# Altium footprint library TOBY-L2.PcbLib: 1 footprints
Each footprint in its own frame and in the unit in brackets; x right, y up, seen from the top. Pads: shape width x height; smd on the part's side, far side on the other; paste and mask are expansions set on the pad; w line width, h text height; cw(c..) or ccw(c..) is an arc to the next point about the centre after c.
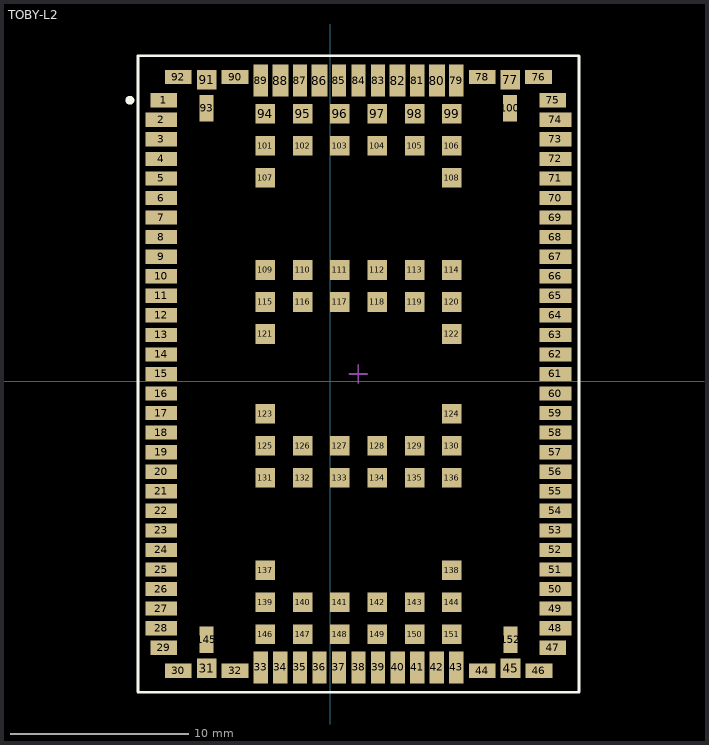
[diagram p0: the footprint, top view; thin cyan lines are the x and y axes]

## TOBY-L2 [mm]
pads (152):
  rect 1.5x0.8 smd paste+0 mask+0.05: 1(-9.363,15.8) 29(-9.363,-15) 47(12.513,-15) 75(12.512,15.8)
  rect 1.8x0.8 smd paste-0.025 mask+0.05: 2(-9.512,14.7) 3(-9.512,13.6) 4(-9.512,12.5) 5(-9.512,11.4) 6(-9.512,10.3) 7(-9.512,9.2) 8(-9.512,8.1) 9(-9.512,7) 10(-9.512,5.9) 11(-9.512,4.8) 12(-9.512,3.7) 13(-9.512,2.6) 14(-9.512,1.5) 15(-9.512,0.4) 16(-9.512,-0.7) 17(-9.512,-1.8) 18(-9.512,-2.9) 19(-9.512,-4) 20(-9.512,-5.1) 21(-9.512,-6.2) 22(-9.512,-7.3) 23(-9.512,-8.4) 24(-9.512,-9.5) 25(-9.512,-10.6) 26(-9.512,-11.7) 27(-9.512,-12.8) 28(-9.512,-13.9) 48(12.663,-13.9) 49(12.663,-12.8) 50(12.663,-11.7) 51(12.663,-10.6) 52(12.663,-9.5) 53(12.663,-8.4) 54(12.663,-7.3) 55(12.663,-6.2) 56(12.663,-5.1) 57(12.663,-4) 58(12.663,-2.9) 59(12.663,-1.8) 60(12.663,-0.7) 61(12.663,0.4) 62(12.663,1.5) 63(12.663,2.6) 64(12.663,3.7) 65(12.663,4.8) 66(12.663,5.9) 67(12.663,7) 68(12.663,8.1) 69(12.663,9.2) 70(12.663,10.3) 71(12.663,11.4) 72(12.663,12.5) 73(12.663,13.6) 74(12.663,14.7)
  rect 1.5x0.8 smd paste+0.025 mask+0.05: 30(-8.563,-16.3) 32(-5.363,-16.3) 44(8.537,-16.3) 46(11.738,-16.3) 76(11.712,17.1) 78(8.537,17.1) 90(-5.363,17.1) 92(-8.563,17.1)
  rect 1.1x1.1 smd paste+0.025 mask+0.05: 31(-6.963,-16.15) 45(10.138,-16.15) 77(10.112,16.95) 91(-6.962,16.95)
  rect 0.8x1.8 smd paste-0.025 mask+0.05: 33(-3.913,-16.1) 34(-2.813,-16.1) 35(-1.713,-16.1) 36(-0.613,-16.1) 37(0.487,-16.1) 38(1.587,-16.1) 39(2.687,-16.1) 40(3.787,-16.1) 41(4.887,-16.1) 42(5.987,-16.1) 43(7.087,-16.1) 79(7.088,16.9) 81(4.888,16.9) 83(2.688,16.9) 84(1.587,16.9) 85(0.487,16.9) 87(-1.712,16.9) 89(-3.912,16.9)
  rect 0.9x1.8 smd paste-0.025 mask+0.05: 80(5.988,16.9) 82(3.788,16.9) 86(-0.612,16.9) 88(-2.812,16.9)
  rect 0.8x1.5 smd paste+0.025 mask+0.05: 93(-6.962,15.35) 100(10.112,15.35) 145(-6.963,-14.55) 152(10.138,-14.55)
  rect 1.1x1.1 smd paste-0.025 mask+0.05: 94(-3.662,15.05) 95(-1.562,15.05) 96(0.537,15.05) 97(2.638,15.05) 98(4.737,15.05) 99(6.837,15.05) 101(-3.662,13.25) 102(-1.562,13.25) 103(0.537,13.25) 104(2.638,13.25) 105(4.737,13.25) 106(6.837,13.25) 107(-3.662,11.45) 108(6.837,11.45) 109(-3.662,6.25) 110(-1.562,6.25) 111(0.537,6.25) 112(2.638,6.25) 113(4.737,6.25) 114(6.837,6.25) 115(-3.662,4.45) 116(-1.562,4.45) 117(0.537,4.45) 118(2.638,4.45) 119(4.737,4.45) 120(6.837,4.45) 121(-3.662,2.65) 122(6.837,2.65) 123(-3.662,-1.85) 124(6.837,-1.85) 125(-3.662,-3.65) 126(-1.562,-3.65) 127(0.537,-3.65) 128(2.638,-3.65) 129(4.737,-3.65) 130(6.837,-3.65) 131(-3.662,-5.45) 132(-1.562,-5.45) 133(0.537,-5.45) 134(2.638,-5.45) 135(4.737,-5.45) 136(6.837,-5.45) 137(-3.662,-10.65) 138(6.837,-10.65) 139(-3.662,-12.45) 140(-1.562,-12.45) 141(0.537,-12.45) 142(2.638,-12.45) 143(4.737,-12.45) 144(6.837,-12.45) 146(-3.662,-14.25) 147(-1.562,-14.25) 148(0.537,-14.25) 149(2.638,-14.25) 150(4.737,-14.25) 151(6.837,-14.25)
Top Overlay:
  circle w0.4: c-11.275,15.8 r0.05
  lines w0.16: -10.815,-17.489 -10.815,18.299 13.969,18.299 13.988,18.28 13.988,-17.489 13.975,-17.502 -10.802,-17.502 -10.815,-17.489
Mechanical 15:
  lines w0.1: 1.075,0.4 1.575,0.4 2.075,0.4 ; 1.575,-0.1 1.575,0.9
  text ".Designator" at 1.675,0.833 h1
3D body "TOBY.STEP": height 2.6, standoff 0, extent -10.812,-17.5 13.988,18.3